# Altium footprint library MAX49921FATA_VY+.PcbLib: 1 footprints
Each footprint in its own frame and in the unit in brackets; x right, y up, seen from the top. Pads: shape width x height; smd on the part's side, far side on the other; paste and mask are expansions set on the pad; w line width, h text height; cw(c..) or ccw(c..) is an arc to the next point about the centre after c.
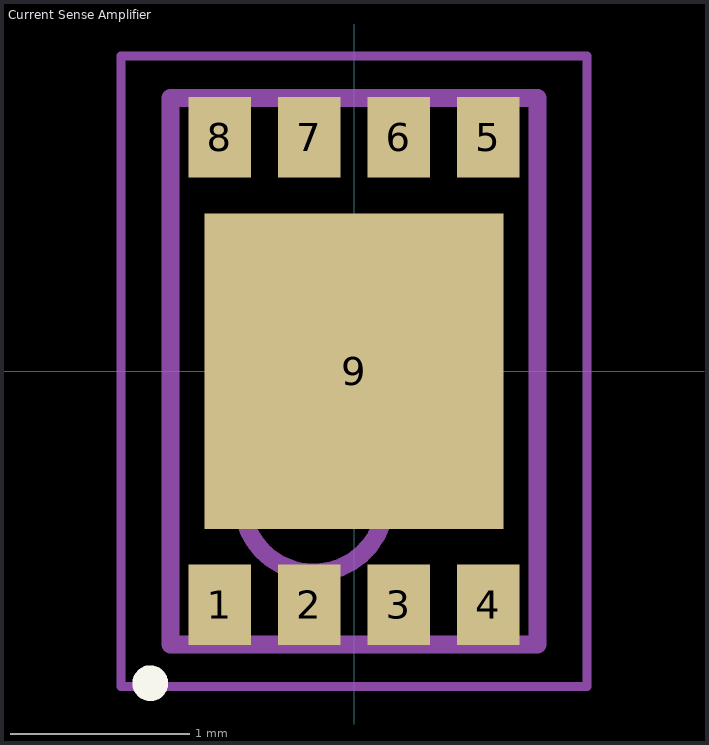
[diagram p0: the footprint, top view; thin cyan lines are the x and y axes]

## Current Sense Amplifier [mm]
pads (9):
  rect 0.35x0.45 smd: 1(-0.75,-1.305) 2(-0.25,-1.305) 3(0.25,-1.305) 4(0.75,-1.305) 5(0.75,1.305) 6(0.25,1.305) 7(-0.25,1.305) 8(-0.75,1.305)
  rect 1.67x1.76 smd: 9(0,0)
Top Overlay:
  circle w0.1: c-1.137,-1.742 r0.05
Top Assembly:
  circle w0.1: c-0.225,-0.725 r0.4
  lines w0.1: -1.025,-1.525 -1.025,1.525 1.025,1.525 1.025,-1.525 -1.025,-1.525
Top Courtyard:
  lines w0.05: -1.3,-1.76 -1.3,1.76 1.3,1.76 1.3,-1.76 -1.3,-1.76
  lines w0.1: -0.5,0 0.5,0 ; 0,-0.5 0,0.5
3D body: height 0.75, standoff 0, extent -1.025,-1.525 1.025,1.525